# EAGLE library part PGA2500 (library BurrBrownAudioParts)
PGA2500: Digitally Controlled Microphone Preamplifier
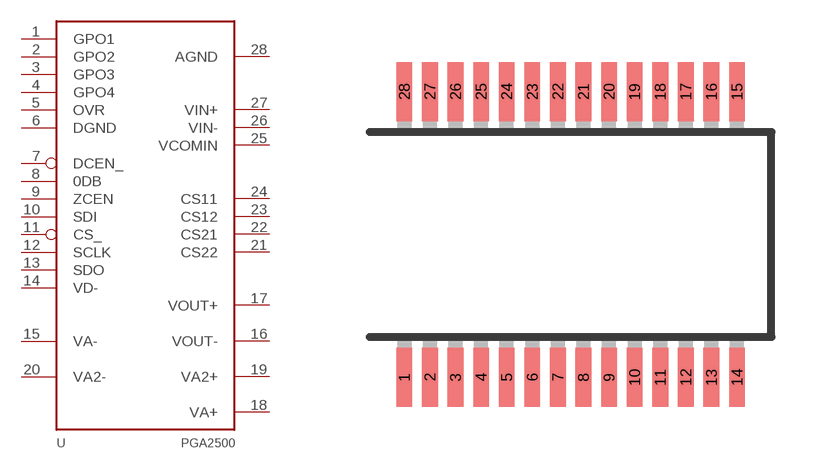
[diagram p0: symbol with the pads of SSOP28; footprint SSOP28]

Designator prefix -

## PGA2500  [SSOP28]
1  GPO1  out
2  GPO2  out
3  GPO3  out
4  GPO4  out
5  OVR  out
6  DGND
7  DCEN_  in
8  0DB  in
9  ZCEN  in
10  SDI  in
11  CS_  in
12  SCLK  in
13  SDO  out
14  VD-
15  VA-
16  VOUT-
17  VOUT+
18  VA+
19  VA2+
20  VA2-
21  CS22  pas
22  CS21  pas
23  CS12  pas
24  CS11  pas
25  VCOMIN
26  VIN-
27  VIN+
28  AGND

## Footprint SSOP28 (pad centres in mm)
Shrink Small Outline Package package type SS
smd 0.4 x 1.5: 1 -4.225,-3.625; 2 -3.575,-3.625; 3 -2.925,-3.625; 4 -2.275,-3.625; 5 -1.625,-3.625; 6 -0.975,-3.625; 7 -0.325,-3.625; 8 0.325,-3.625; 9 0.975,-3.625; 10 1.625,-3.625; 11 2.275,-3.625; 12 2.925,-3.625; 13 3.575,-3.625; 14 4.225,-3.625; 15 4.225,3.625; 16 3.575,3.625; 17 2.925,3.625; 18 2.275,3.625; 19 1.625,3.625; 20 0.975,3.625; 21 0.325,3.625; 22 -0.325,3.625; 23 -0.975,3.625; 24 -1.625,3.625; 25 -2.275,3.625; 26 -2.925,3.625; 27 -3.575,3.625; 28 -4.225,3.625